# Altium integrated library SparkFun-Passives.IntLib: 113 symbols
Pins are listed as number, name and electrical type; pins without a type are passive.

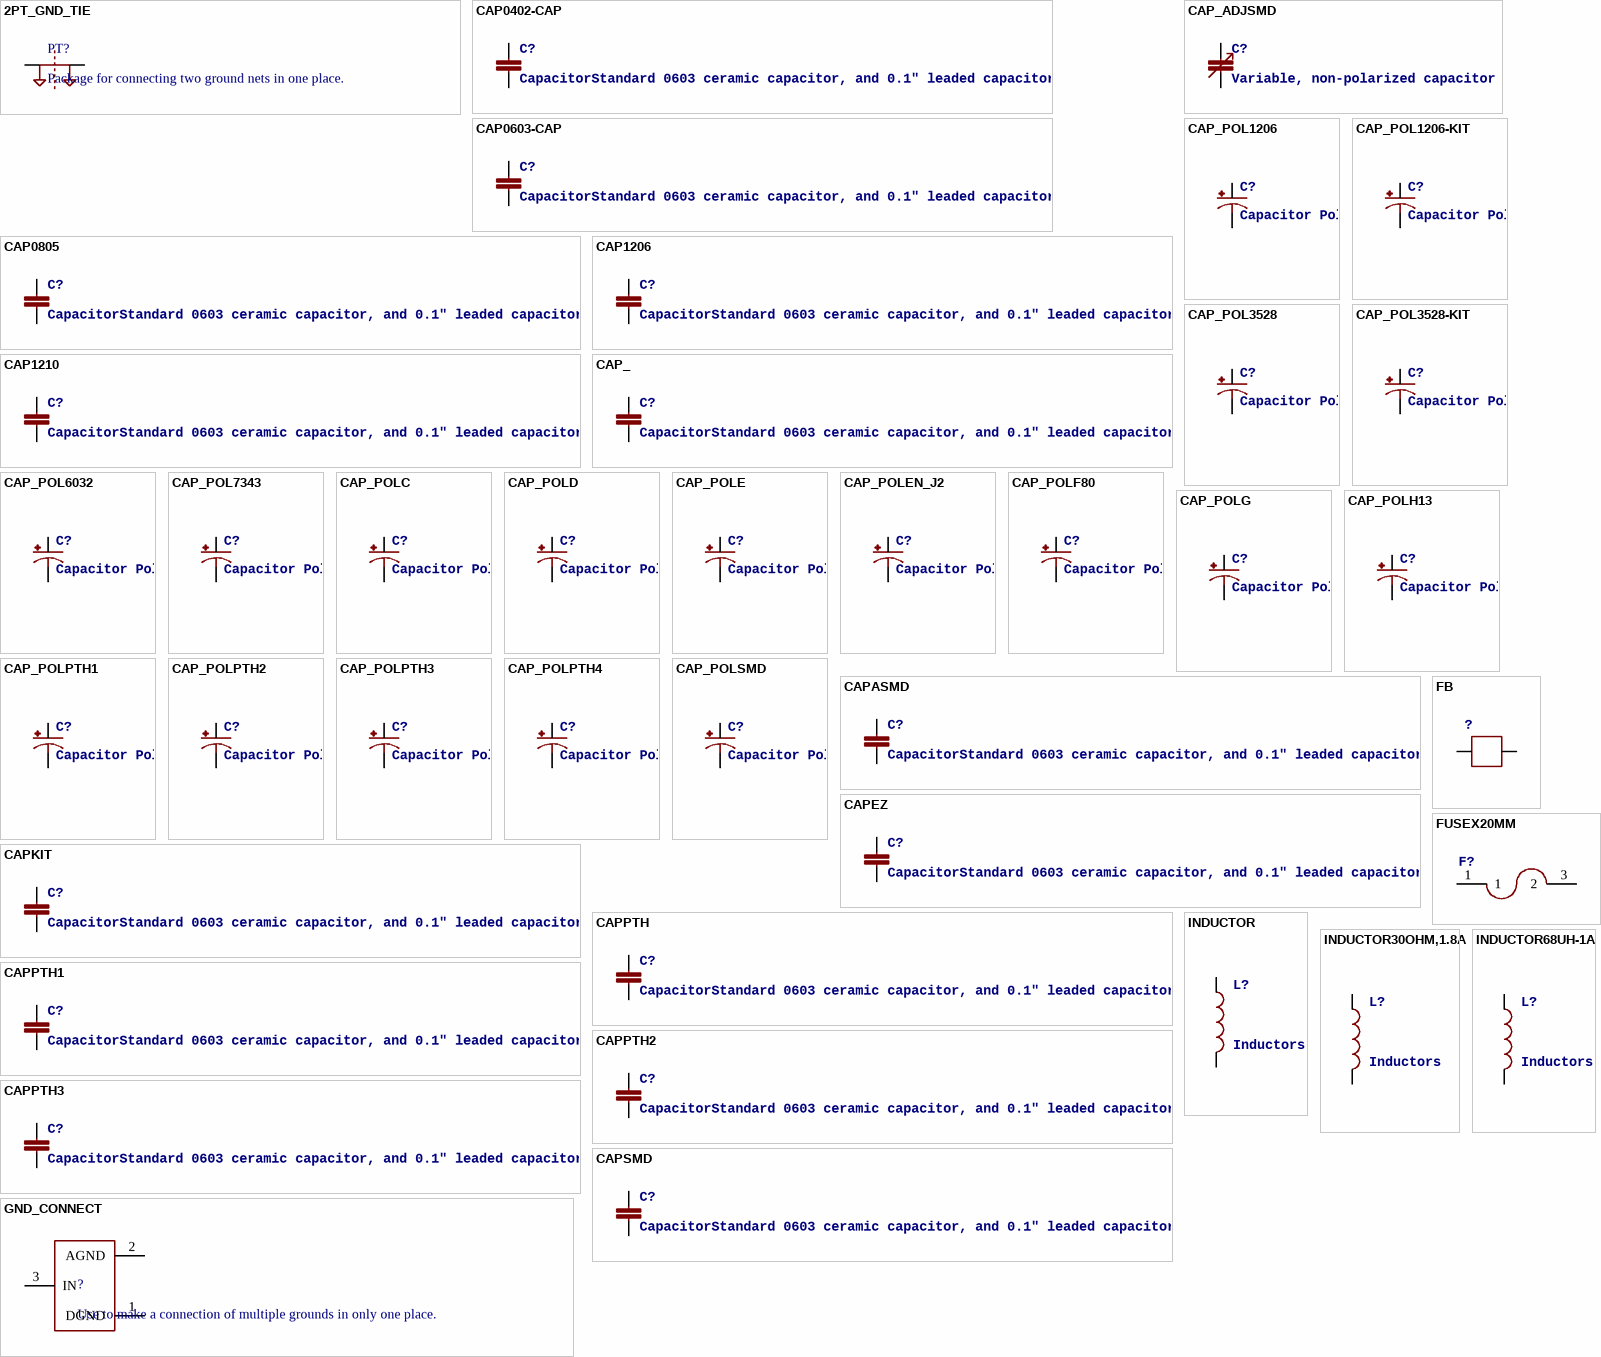
[diagram p0: symbols 2PT_GND_TIE to INDUCTOR68UH-1A]

## 2PT_GND_TIE
designator PT?, comment Package for connecting two ground nets in one place.
footprint 2PT_GND_TIE
pins: P$1, P$2

## CAP0402-CAP
designator C?, comment CapacitorStandard 0603 ceramic capacitor, and 0.1" leaded capacitor.
footprint 0402-CAP
pins: 1, 2

## CAP0603-CAP
designator C?, comment CapacitorStandard 0603 ceramic capacitor, and 0.1" leaded capacitor.
footprint 0603-CAP
pins: 1, 2

## CAP0805
designator C?, comment CapacitorStandard 0603 ceramic capacitor, and 0.1" leaded capacitor.
footprint 0805 (Footprint not found)
pins: 1, 2

## CAP1206
designator C?, comment CapacitorStandard 0603 ceramic capacitor, and 0.1" leaded capacitor.
footprint 1206
pins: 1, 2

## CAP1210
designator C?, comment CapacitorStandard 0603 ceramic capacitor, and 0.1" leaded capacitor.
footprint 1210
pins: 1, 2

## CAP_
designator C?, comment CapacitorStandard 0603 ceramic capacitor, and 0.1" leaded capacitor.
footprint AXIAL-5MM
pins: P$1 1, P$2 2

## CAP_ADJSMD
designator C?, comment Variable, non-polarized capacitor
footprint CTZ3
pins: + 3, - 4

## CAP_POL1206
designator C?, comment Capacitor PolarizedThese are standard SMD and PTH capacitors. Normally 10uF, 47uF, and 100uF in electrolytic and tantalum varieties. Always verify the external diameter of the through hole cap, it varies with capacity, voltage, and manufacturer. The EIA devices should be standard.
footprint EIA3216
pins: A +, C -

## CAP_POL1206-KIT
designator C?, comment Capacitor PolarizedThese are standard SMD and PTH capacitors. Normally 10uF, 47uF, and 100uF in electrolytic and tantalum varieties. Always verify the external diameter of the through hole cap, it varies with capacity, voltage, and manufacturer. The EIA devices should be standard.
footprint EIA3216-KIT
pins: A +, C -

## CAP_POL3528
designator C?, comment Capacitor PolarizedThese are standard SMD and PTH capacitors. Normally 10uF, 47uF, and 100uF in electrolytic and tantalum varieties. Always verify the external diameter of the through hole cap, it varies with capacity, voltage, and manufacturer. The EIA devices should be standard.
footprint EIA3528
pins: A +, C -

## CAP_POL3528-KIT
designator C?, comment Capacitor PolarizedThese are standard SMD and PTH capacitors. Normally 10uF, 47uF, and 100uF in electrolytic and tantalum varieties. Always verify the external diameter of the through hole cap, it varies with capacity, voltage, and manufacturer. The EIA devices should be standard.
footprint EIA3528-KIT
pins: A +, C -

## CAP_POL6032
designator C?, comment Capacitor PolarizedThese are standard SMD and PTH capacitors. Normally 10uF, 47uF, and 100uF in electrolytic and tantalum varieties. Always verify the external diameter of the through hole cap, it varies with capacity, voltage, and manufacturer. The EIA devices should be standard.
footprint EIA6032
pins: P$1 +, P$2 -

## CAP_POL7343
designator C?, comment Capacitor PolarizedThese are standard SMD and PTH capacitors. Normally 10uF, 47uF, and 100uF in electrolytic and tantalum varieties. Always verify the external diameter of the through hole cap, it varies with capacity, voltage, and manufacturer. The EIA devices should be standard.
footprint EIA7343
pins: A +, C -

## CAP_POLC
designator C?, comment Capacitor PolarizedThese are standard SMD and PTH capacitors. Normally 10uF, 47uF, and 100uF in electrolytic and tantalum varieties. Always verify the external diameter of the through hole cap, it varies with capacity, voltage, and manufacturer. The EIA devices should be standard.
footprint PANASONIC_C
pins: +, -

## CAP_POLD
designator C?, comment Capacitor PolarizedThese are standard SMD and PTH capacitors. Normally 10uF, 47uF, and 100uF in electrolytic and tantalum varieties. Always verify the external diameter of the through hole cap, it varies with capacity, voltage, and manufacturer. The EIA devices should be standard.
footprint PANASONIC_D
pins: +, -

## CAP_POLE
designator C?, comment Capacitor PolarizedThese are standard SMD and PTH capacitors. Normally 10uF, 47uF, and 100uF in electrolytic and tantalum varieties. Always verify the external diameter of the through hole cap, it varies with capacity, voltage, and manufacturer. The EIA devices should be standard.
footprint PANASONIC_E
pins: +, -

## CAP_POLEN_J2
designator C?, comment Capacitor PolarizedThese are standard SMD and PTH capacitors. Normally 10uF, 47uF, and 100uF in electrolytic and tantalum varieties. Always verify the external diameter of the through hole cap, it varies with capacity, voltage, and manufacturer. The EIA devices should be standard.
footprint EN_J2
pins: +, -

## CAP_POLF80
designator C?, comment Capacitor PolarizedThese are standard SMD and PTH capacitors. Normally 10uF, 47uF, and 100uF in electrolytic and tantalum varieties. Always verify the external diameter of the through hole cap, it varies with capacity, voltage, and manufacturer. The EIA devices should be standard.
footprint NIPPON_F80
pins: +, -

## CAP_POLG
designator C?, comment Capacitor PolarizedThese are standard SMD and PTH capacitors. Normally 10uF, 47uF, and 100uF in electrolytic and tantalum varieties. Always verify the external diameter of the through hole cap, it varies with capacity, voltage, and manufacturer. The EIA devices should be standard.
footprint PANASONIC_G
pins: +, -

## CAP_POLH13
designator C?, comment Capacitor PolarizedThese are standard SMD and PTH capacitors. Normally 10uF, 47uF, and 100uF in electrolytic and tantalum varieties. Always verify the external diameter of the through hole cap, it varies with capacity, voltage, and manufacturer. The EIA devices should be standard.
footprint PANASONIC_H13
pins: +, -

## CAP_POLPTH1
designator C?, comment Capacitor PolarizedThese are standard SMD and PTH capacitors. Normally 10uF, 47uF, and 100uF in electrolytic and tantalum varieties. Always verify the external diameter of the through hole cap, it varies with capacity, voltage, and manufacturer. The EIA devices should be standard.
footprint CPOL-RADIAL-100UF-25V
pins: 1 +, 2 -

## CAP_POLPTH2
designator C?, comment Capacitor PolarizedThese are standard SMD and PTH capacitors. Normally 10uF, 47uF, and 100uF in electrolytic and tantalum varieties. Always verify the external diameter of the through hole cap, it varies with capacity, voltage, and manufacturer. The EIA devices should be standard.
footprint CPOL-RADIAL-10UF-25V
pins: 1 +, 2 -

## CAP_POLPTH3
designator C?, comment Capacitor PolarizedThese are standard SMD and PTH capacitors. Normally 10uF, 47uF, and 100uF in electrolytic and tantalum varieties. Always verify the external diameter of the through hole cap, it varies with capacity, voltage, and manufacturer. The EIA devices should be standard.
footprint CPOL-RADIAL-1000UF-63V
pins: 1 +, 2 -

## CAP_POLPTH4
designator C?, comment Capacitor PolarizedThese are standard SMD and PTH capacitors. Normally 10uF, 47uF, and 100uF in electrolytic and tantalum varieties. Always verify the external diameter of the through hole cap, it varies with capacity, voltage, and manufacturer. The EIA devices should be standard.
footprint CPOL-RADIAL-1000UF-25V
pins: 1 +, 2 -

## CAP_POLSMD
designator C?, comment Capacitor PolarizedThese are standard SMD and PTH capacitors. Normally 10uF, 47uF, and 100uF in electrolytic and tantalum varieties. Always verify the external diameter of the through hole cap, it varies with capacity, voltage, and manufacturer. The EIA devices should be standard.
footprint VISHAY_C
pins: +, -

## CAPASMD
designator C?, comment CapacitorStandard 0603 ceramic capacitor, and 0.1" leaded capacitor.
footprint CTZ3
pins: + 1, - 2

## CAPEZ
designator C?, comment CapacitorStandard 0603 ceramic capacitor, and 0.1" leaded capacitor.
footprint CAP-PTH-SMALLEZ
pins: 1, 2

## CAPKIT
designator C?, comment CapacitorStandard 0603 ceramic capacitor, and 0.1" leaded capacitor.
footprint CAP-PTH-SMALL-KIT
pins: 1, 2

## CAPPTH
designator C?, comment CapacitorStandard 0603 ceramic capacitor, and 0.1" leaded capacitor.
footprint CAP-PTH-SMALL
pins: 1, 2

## CAPPTH1
designator C?, comment CapacitorStandard 0603 ceramic capacitor, and 0.1" leaded capacitor.
footprint CAP-PTH-5MM
pins: 1, 2

## CAPPTH2
designator C?, comment CapacitorStandard 0603 ceramic capacitor, and 0.1" leaded capacitor.
footprint CAP-PTH-SMALL2
pins: 1, 2

## CAPPTH3
designator C?, comment CapacitorStandard 0603 ceramic capacitor, and 0.1" leaded capacitor.
footprint CAP-PTH-LARGE
pins: 1, 2

## CAPSMD
designator C?, comment CapacitorStandard 0603 ceramic capacitor, and 0.1" leaded capacitor.
footprint GRM43D
pins: A 1, C 2

## FB
designator ?
footprint 0603
pins: 1 P$1, 2 P$2

## FUSEX20MM
designator F?
footprint FUSE_5MM
pins: 1, 3 2

## GND_CONNECT
designator ?, comment Use to make a connection of multiple grounds in only one place.
footprint GND_CONNECT
pins: 1 DGND, 2 AGND, 3 IN

## INDUCTOR
designator L?, comment Inductors   Basic Inductor/Choke - 0603 and 1206. Footprints are not proven and vary greatly between part numbers. INDUCTOR POWER 3.3UH 4.0A SMD 0.197" L x 0.197" W x 0.177" H (5.00mm x 5.00mm x 4.50mm)
footprint INDUCTOR-SRP4020
pins: P$1 1, P$2 2

## INDUCTOR30OHM,1.8A
designator L?, comment Inductors   Basic Inductor/Choke - 0603 and 1206. Footprints are not proven and vary greatly between part numbers. INDUCTOR POWER 3.3UH 4.0A SMD 0.197" L x 0.197" W x 0.177" H (5.00mm x 5.00mm x 4.50mm)
PROD_ID: RES-07859
footprint 0603
pins: 1, 2

## INDUCTOR68UH-1A
designator L?, comment Inductors   Basic Inductor/Choke - 0603 and 1206. Footprints are not proven and vary greatly between part numbers. INDUCTOR POWER 3.3UH 4.0A SMD 0.197" L x 0.197" W x 0.177" H (5.00mm x 5.00mm x 4.50mm)
PROD_ID: NDUC-09739
footprint CR75
pins: P$1 1, P$2 2

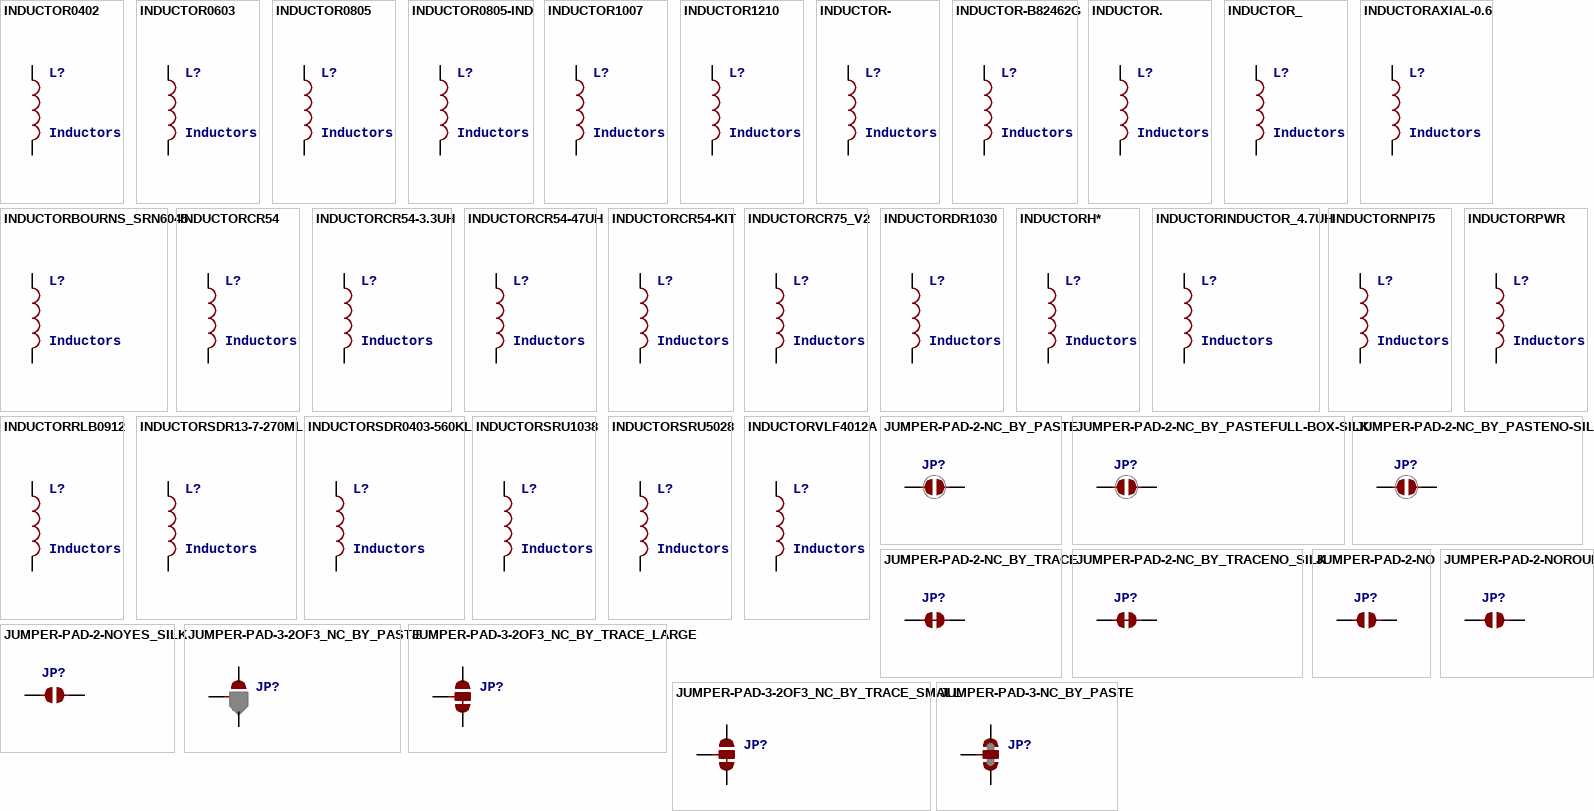
[diagram p1: symbols INDUCTOR0402 to JUMPER-PAD-3-NC_BY_PASTE]

## INDUCTOR0402
designator L?, comment Inductors   Basic Inductor/Choke - 0603 and 1206. Footprints are not proven and vary greatly between part numbers. INDUCTOR POWER 3.3UH 4.0A SMD 0.197" L x 0.197" W x 0.177" H (5.00mm x 5.00mm x 4.50mm)
footprint C0402
pins: 1, 2

## INDUCTOR0603
designator L?, comment Inductors   Basic Inductor/Choke - 0603 and 1206. Footprints are not proven and vary greatly between part numbers. INDUCTOR POWER 3.3UH 4.0A SMD 0.197" L x 0.197" W x 0.177" H (5.00mm x 5.00mm x 4.50mm)
footprint 0603
pins: 1, 2

## INDUCTOR0805
designator L?, comment Inductors   Basic Inductor/Choke - 0603 and 1206. Footprints are not proven and vary greatly between part numbers. INDUCTOR POWER 3.3UH 4.0A SMD 0.197" L x 0.197" W x 0.177" H (5.00mm x 5.00mm x 4.50mm)
footprint 0805
pins: 1, 2

## INDUCTOR0805-IND
designator L?, comment Inductors   Basic Inductor/Choke - 0603 and 1206. Footprints are not proven and vary greatly between part numbers. INDUCTOR POWER 3.3UH 4.0A SMD 0.197" L x 0.197" W x 0.177" H (5.00mm x 5.00mm x 4.50mm)
PROD_ID: NDUC-13076
footprint 0805
pins: 1, 2

## INDUCTOR1007
designator L?, comment Inductors   Basic Inductor/Choke - 0603 and 1206. Footprints are not proven and vary greatly between part numbers. INDUCTOR POWER 3.3UH 4.0A SMD 0.197" L x 0.197" W x 0.177" H (5.00mm x 5.00mm x 4.50mm)
footprint 1007
pins: 1, 2

## INDUCTOR1210
designator L?, comment Inductors   Basic Inductor/Choke - 0603 and 1206. Footprints are not proven and vary greatly between part numbers. INDUCTOR POWER 3.3UH 4.0A SMD 0.197" L x 0.197" W x 0.177" H (5.00mm x 5.00mm x 4.50mm)
footprint 1210
pins: 1, 2

## INDUCTOR-
designator L?, comment Inductors   Basic Inductor/Choke - 0603 and 1206. Footprints are not proven and vary greatly between part numbers. INDUCTOR POWER 3.3UH 4.0A SMD 0.197" L x 0.197" W x 0.177" H (5.00mm x 5.00mm x 4.50mm)
footprint CDRH3D28
pins: 1, 2

## INDUCTOR-B82462G
designator L?, comment Inductors   Basic Inductor/Choke - 0603 and 1206. Footprints are not proven and vary greatly between part numbers. INDUCTOR POWER 3.3UH 4.0A SMD 0.197" L x 0.197" W x 0.177" H (5.00mm x 5.00mm x 4.50mm)
footprint B82462G
pins: P$1 1, P$2 2

## INDUCTOR.
designator L?, comment Inductors   Basic Inductor/Choke - 0603 and 1206. Footprints are not proven and vary greatly between part numbers. INDUCTOR POWER 3.3UH 4.0A SMD 0.197" L x 0.197" W x 0.177" H (5.00mm x 5.00mm x 4.50mm)
footprint CDRH2D09
pins: P$1 1, P$2 2

## INDUCTOR_
designator L?, comment Inductors   Basic Inductor/Choke - 0603 and 1206. Footprints are not proven and vary greatly between part numbers. INDUCTOR POWER 3.3UH 4.0A SMD 0.197" L x 0.197" W x 0.177" H (5.00mm x 5.00mm x 4.50mm)
footprint COOPER_UP4B
pins: 1, 2

## INDUCTORAXIAL-0.6
designator L?, comment Inductors   Basic Inductor/Choke - 0603 and 1206. Footprints are not proven and vary greatly between part numbers. INDUCTOR POWER 3.3UH 4.0A SMD 0.197" L x 0.197" W x 0.177" H (5.00mm x 5.00mm x 4.50mm)
footprint AXIAL-0.6
pins: P$1 1, P$2 2

## INDUCTORBOURNS_SRN6045
designator L?, comment Inductors   Basic Inductor/Choke - 0603 and 1206. Footprints are not proven and vary greatly between part numbers. INDUCTOR POWER 3.3UH 4.0A SMD 0.197" L x 0.197" W x 0.177" H (5.00mm x 5.00mm x 4.50mm)
PROD_ID: NDUC-11627
footprint SRN6045
pins: 1, 2

## INDUCTORCR54
designator L?, comment Inductors   Basic Inductor/Choke - 0603 and 1206. Footprints are not proven and vary greatly between part numbers. INDUCTOR POWER 3.3UH 4.0A SMD 0.197" L x 0.197" W x 0.177" H (5.00mm x 5.00mm x 4.50mm)
footprint CR54
pins: P$1 1, P$2 2

## INDUCTORCR54-3.3UH
designator L?, comment Inductors   Basic Inductor/Choke - 0603 and 1206. Footprints are not proven and vary greatly between part numbers. INDUCTOR POWER 3.3UH 4.0A SMD 0.197" L x 0.197" W x 0.177" H (5.00mm x 5.00mm x 4.50mm)
PROD_ID: NDUC-11157
footprint CR54
pins: P$1 1, P$2 2

## INDUCTORCR54-47UH
designator L?, comment Inductors   Basic Inductor/Choke - 0603 and 1206. Footprints are not proven and vary greatly between part numbers. INDUCTOR POWER 3.3UH 4.0A SMD 0.197" L x 0.197" W x 0.177" H (5.00mm x 5.00mm x 4.50mm)
PROD_ID: NDUC-10789
footprint CR54
pins: P$1 1, P$2 2

## INDUCTORCR54-KIT
designator L?, comment Inductors   Basic Inductor/Choke - 0603 and 1206. Footprints are not proven and vary greatly between part numbers. INDUCTOR POWER 3.3UH 4.0A SMD 0.197" L x 0.197" W x 0.177" H (5.00mm x 5.00mm x 4.50mm)
footprint CR54-KIT
pins: P$1 1, P$2 2

## INDUCTORCR75_V2
designator L?, comment Inductors   Basic Inductor/Choke - 0603 and 1206. Footprints are not proven and vary greatly between part numbers. INDUCTOR POWER 3.3UH 4.0A SMD 0.197" L x 0.197" W x 0.177" H (5.00mm x 5.00mm x 4.50mm)
footprint CR75_V2
pins: P$1 1, P$2 2

## INDUCTORDR1030
designator L?, comment Inductors   Basic Inductor/Choke - 0603 and 1206. Footprints are not proven and vary greatly between part numbers. INDUCTOR POWER 3.3UH 4.0A SMD 0.197" L x 0.197" W x 0.177" H (5.00mm x 5.00mm x 4.50mm)
footprint DR1030
pins: 1, 2

## INDUCTORH*
designator L?, comment Inductors   Basic Inductor/Choke - 0603 and 1206. Footprints are not proven and vary greatly between part numbers. INDUCTOR POWER 3.3UH 4.0A SMD 0.197" L x 0.197" W x 0.177" H (5.00mm x 5.00mm x 4.50mm)
footprint INDUCTOR-1206
pins: P$1 1, P$2 2

## INDUCTORINDUCTOR_4.7UH
designator L?, comment Inductors   Basic Inductor/Choke - 0603 and 1206. Footprints are not proven and vary greatly between part numbers. INDUCTOR POWER 3.3UH 4.0A SMD 0.197" L x 0.197" W x 0.177" H (5.00mm x 5.00mm x 4.50mm)
PROD_ID: NDUC-10146
footprint INDUCTOR_4.7UH
pins: P$1 1, P$2 2

## INDUCTORNPI75
designator L?, comment Inductors   Basic Inductor/Choke - 0603 and 1206. Footprints are not proven and vary greatly between part numbers. INDUCTOR POWER 3.3UH 4.0A SMD 0.197" L x 0.197" W x 0.177" H (5.00mm x 5.00mm x 4.50mm)
footprint NPI75C
pins: 1, 2

## INDUCTORPWR
designator L?, comment Inductors   Basic Inductor/Choke - 0603 and 1206. Footprints are not proven and vary greatly between part numbers. INDUCTOR POWER 3.3UH 4.0A SMD 0.197" L x 0.197" W x 0.177" H (5.00mm x 5.00mm x 4.50mm)
footprint CDRH125
pins: 1, 2

## INDUCTORRLB0912
designator L?, comment Inductors   Basic Inductor/Choke - 0603 and 1206. Footprints are not proven and vary greatly between part numbers. INDUCTOR POWER 3.3UH 4.0A SMD 0.197" L x 0.197" W x 0.177" H (5.00mm x 5.00mm x 4.50mm)
footprint RLB0912
pins: 1, 2

## INDUCTORSDR13-7-270ML
designator L?, comment Inductors   Basic Inductor/Choke - 0603 and 1206. Footprints are not proven and vary greatly between part numbers. INDUCTOR POWER 3.3UH 4.0A SMD 0.197" L x 0.197" W x 0.177" H (5.00mm x 5.00mm x 4.50mm)
PROD_ID: NDUC-12529
footprint INDUCTOR_SDR1307
pins: P$1 1, P$2 2

## INDUCTORSDR0403-560KL
designator L?, comment Inductors   Basic Inductor/Choke - 0603 and 1206. Footprints are not proven and vary greatly between part numbers. INDUCTOR POWER 3.3UH 4.0A SMD 0.197" L x 0.197" W x 0.177" H (5.00mm x 5.00mm x 4.50mm)
DIST: DIGIKEY; DIST_ID: SDR0403-560KLCT-ND
footprint SDR0403
pins: P$1 1, P$2 2

## INDUCTORSRU1038
designator L?, comment Inductors   Basic Inductor/Choke - 0603 and 1206. Footprints are not proven and vary greatly between part numbers. INDUCTOR POWER 3.3UH 4.0A SMD 0.197" L x 0.197" W x 0.177" H (5.00mm x 5.00mm x 4.50mm)
footprint SRU1038
pins: 1, 2

## INDUCTORSRU5028
designator L?, comment Inductors   Basic Inductor/Choke - 0603 and 1206. Footprints are not proven and vary greatly between part numbers. INDUCTOR POWER 3.3UH 4.0A SMD 0.197" L x 0.197" W x 0.177" H (5.00mm x 5.00mm x 4.50mm)
footprint SRU5028
pins: 1, 2

## INDUCTORVLF4012A
designator L?, comment Inductors   Basic Inductor/Choke - 0603 and 1206. Footprints are not proven and vary greatly between part numbers. INDUCTOR POWER 3.3UH 4.0A SMD 0.197" L x 0.197" W x 0.177" H (5.00mm x 5.00mm x 4.50mm)
footprint VLF4012A
pins: P$1 1, P$2 2

## JUMPER-PAD-2-NC_BY_PASTE
designator JP?
footprint PAD-JUMPER-2-NC_BY_PASTE_YES_SILK
pins: 1, 2

## JUMPER-PAD-2-NC_BY_PASTEFULL-BOX-SILK
designator JP?
footprint PAD-JUMPER-2-NC_BY_PASTE_YES_SILK_FULL_BOX
pins: 1, 2

## JUMPER-PAD-2-NC_BY_PASTENO-SILK
designator JP?
footprint PAD-JUMPER-2-NC_BY_PASTE_NO_SILK
pins: 1, 2

## JUMPER-PAD-2-NC_BY_TRACE
designator JP?
footprint PAD-JUMPER-2-NC_BY_TRACE_YES_SILK
pins: 1, 2

## JUMPER-PAD-2-NC_BY_TRACENO_SILK
designator JP?
footprint PAD-JUMPER-2-NC_BY_TRACE_NO_SILK
pins: 1, 2

## JUMPER-PAD-2-NO
designator JP?
footprint PAD-JUMPER-2-NO_NO_SILK
pins: 1, 2

## JUMPER-PAD-2-NOROUND
designator JP?
footprint PAD-JUMPER-2-NO_YES_SILK_ROUND
pins: 1, 2

## JUMPER-PAD-2-NOYES_SILK
designator JP?
footprint PAD-JUMPER-2-NO_YES_SILK
pins: 1, 2

## JUMPER-PAD-3-2OF3_NC_BY_PASTE
designator JP?
footprint PAD-JUMPER-3-2OF3_NC_BY_PASTE_YES_SILK_FULL_BOX
pins: 1, 2, 3

## JUMPER-PAD-3-2OF3_NC_BY_TRACE_LARGE
designator JP?
footprint PAD-JUMPER-3-2OF3_NC_BY_TRACE_YES_SILK_LARGE
pins: 1, 2, 3

## JUMPER-PAD-3-2OF3_NC_BY_TRACE_SMALL
designator JP?
footprint PAD-JUMPER-3-2OF3_NC_BY_TRACE_YES_SILK_FULL_BOX
pins: 1, 2, 3

## JUMPER-PAD-3-NC_BY_PASTE
designator JP?
footprint PAD-JUMPER-3-NC_BY_PASTE_YES_SILK_FULL_BOX
pins: 1, 2, 3

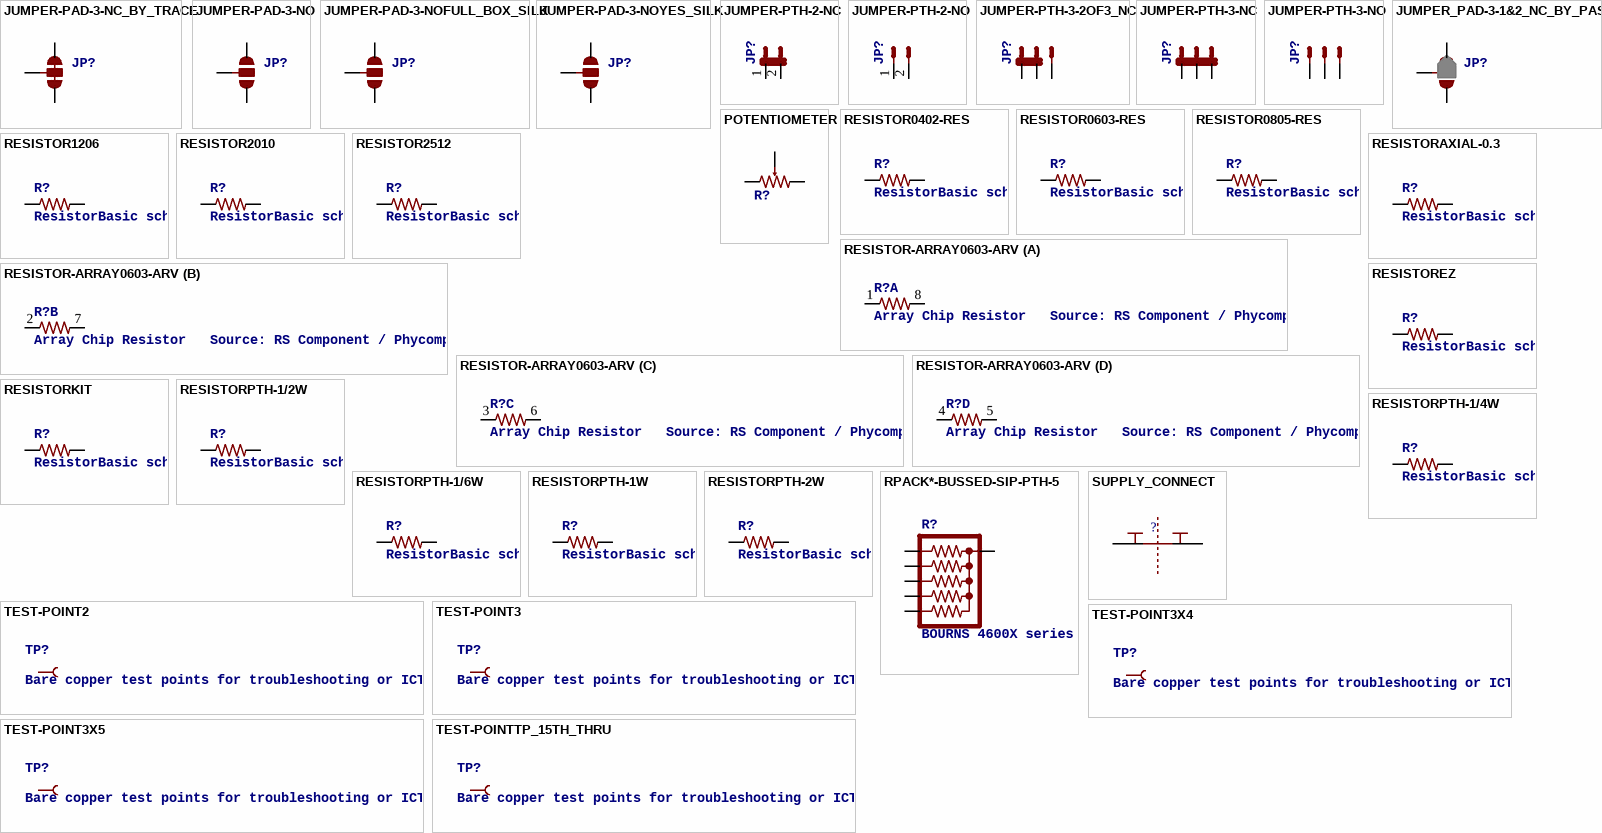
[diagram p2: symbols JUMPER-PAD-3-NC_BY_TRACE to TEST-POINTTP_15TH_THRU]

## JUMPER-PAD-3-NC_BY_TRACE
designator JP?
footprint PAD-JUMPER-3-3OF3_NC_BY_TRACE_YES_SILK_FULL_BOX
pins: 1, 2, 3

## JUMPER-PAD-3-NO
designator JP?
footprint PAD-JUMPER-3-NO_YES_SILK_FULL_BOX_WIDE_SPACING
pins: 1, 2, 3

## JUMPER-PAD-3-NOFULL_BOX_SILK
designator JP?
footprint PAD-JUMPER-3-NO_YES_SILK_FULL_BOX
pins: 1, 2, 3

## JUMPER-PAD-3-NOYES_SILK
designator JP?
footprint PAD-JUMPER-3-NO_YES_SILK
pins: 1, 2, 3

## JUMPER-PTH-2-NC
designator JP?
footprint PTH-JUMPER-NC_BOTTOM_NO_SILK
pins: 1, 2

## JUMPER-PTH-2-NO
designator JP?
footprint PTH-JUMPER-2-NO_NO_SILK
pins: 1, 2

## JUMPER-PTH-3-2OF3_NC
designator JP?
pins: ?1 1, ?2 2, ?3 3

## JUMPER-PTH-3-NC
designator JP?
pins: ?1 1, ?2 2, ?3 3

## JUMPER-PTH-3-NO
designator JP?
pins: ?1 1, ?2 2, ?3 3

## JUMPER_PAD-3-1&2_NC_BY_PASTE
designator JP?
footprint PAD-HUMPER-3-1&2_NC_BY_PASTE_YES_SILK_FULL_BOX
pins: 1, 2, 3

## POTENTIOMETER
designator R?
footprint 0603-ARV
pins: 1, 2, 3 4 5 6 7 8 P$1

## RESISTOR0402-RES
designator R?, comment ResistorBasic schematic elements and footprints for 0603, 1206, and PTH resistors.
footprint 0402-RES
pins: 1, 2

## RESISTOR0603-RES
designator R?, comment ResistorBasic schematic elements and footprints for 0603, 1206, and PTH resistors.
footprint 0603-RES
pins: 1, 2

## RESISTOR0805-RES
designator R?, comment ResistorBasic schematic elements and footprints for 0603, 1206, and PTH resistors.
footprint 0805 (Footprint not found)
pins: 1, 2

## RESISTOR1206
designator R?, comment ResistorBasic schematic elements and footprints for 0603, 1206, and PTH resistors.
footprint 1206
pins: 1, 2

## RESISTOR2010
designator R?, comment ResistorBasic schematic elements and footprints for 0603, 1206, and PTH resistors.
footprint R2010
pins: 1, 2

## RESISTOR2512
designator R?, comment ResistorBasic schematic elements and footprints for 0603, 1206, and PTH resistors.
footprint R2512
pins: 1, 2

## RESISTOR-ARRAY0603-ARV
designator R?, comment Array Chip Resistor   Source: RS Component / Phycomp
footprint 0603-ARV
part A pins: 1, 8 2
part B pins: 2 1, 7 2
part C pins: 3 1, 6 2
part D pins: 4 1, 5 2

## RESISTORAXIAL-0.3
designator R?, comment ResistorBasic schematic elements and footprints for 0603, 1206, and PTH resistors.
footprint AXIAL-0.3
pins: P$1 1, P$2 2

## RESISTOREZ
designator R?, comment ResistorBasic schematic elements and footprints for 0603, 1206, and PTH resistors.
footprint AXIAL-0.3EZ
pins: P$1 1, P$2 2

## RESISTORKIT
designator R?, comment ResistorBasic schematic elements and footprints for 0603, 1206, and PTH resistors.
footprint AXIAL-0.3-KIT
pins: P$1 1, P$2 2

## RESISTORPTH-1/2W
designator R?, comment ResistorBasic schematic elements and footprints for 0603, 1206, and PTH resistors.
footprint AXIAL-0.5
pins: P$1 1, P$2 2

## RESISTORPTH-1/4W
designator R?, comment ResistorBasic schematic elements and footprints for 0603, 1206, and PTH resistors.
footprint AXIAL-0.4
pins: P$1 1, P$2 2

## RESISTORPTH-1/6W
designator R?, comment ResistorBasic schematic elements and footprints for 0603, 1206, and PTH resistors.
footprint 1/6W-RES
pins: 1, 2

## RESISTORPTH-1W
designator R?, comment ResistorBasic schematic elements and footprints for 0603, 1206, and PTH resistors.
footprint AXIAL-0.6
pins: P$1 1, P$2 2

## RESISTORPTH-2W
designator R?, comment ResistorBasic schematic elements and footprints for 0603, 1206, and PTH resistors.
footprint AXIAL-0.8
pins: P$1 1, P$2 2

## RPACK*-BUSSED-SIP-PTH-5
designator R?, comment BOURNS 4600X series thick-film SIP resistor packs  Five resistors bussed to a single pin (denoted by dot). 0.2W / resistor datasheet  SFE parts COM-10855 (330), COM-10856 (10K)
footprint RPACK-SIP-PTH-5
pins: P$1 1, P$2 2, P$3 3, P$4 4, P$5 5, P$6 6

## SUPPLY_CONNECT
designator ?
footprint 2PT_GND_TIE
pins: P$1, P$2

## TEST-POINT2
designator TP?, comment Bare copper test points for troubleshooting or ICT
footprint PAD.02X.02
pins: P$1 1

## TEST-POINT3
designator TP?, comment Bare copper test points for troubleshooting or ICT
footprint PAD.03X.03
pins: P$1 1

## TEST-POINT3X4
designator TP?, comment Bare copper test points for troubleshooting or ICT
footprint PAD.03X.04
pins: P$1 1

## TEST-POINT3X5
designator TP?, comment Bare copper test points for troubleshooting or ICT
footprint PAD.03X.05
pins: P$1 1

## TEST-POINTTP_15TH_THRU
designator TP?, comment Bare copper test points for troubleshooting or ICT
footprint TP_15TH
pins: P$1 1